# Altium footprint library Inductors_Power.PCBLIB: 45 footprints (part 3 of 3)
Each footprint in its own frame and in the unit in brackets; x right, y up, seen from the top. Pads: shape width x height; smd on the part's side, far side on the other; paste and mask are expansions set on the pad; w line width, h text height; cw(c..) or ccw(c..) is an arc to the next point about the centre after c.
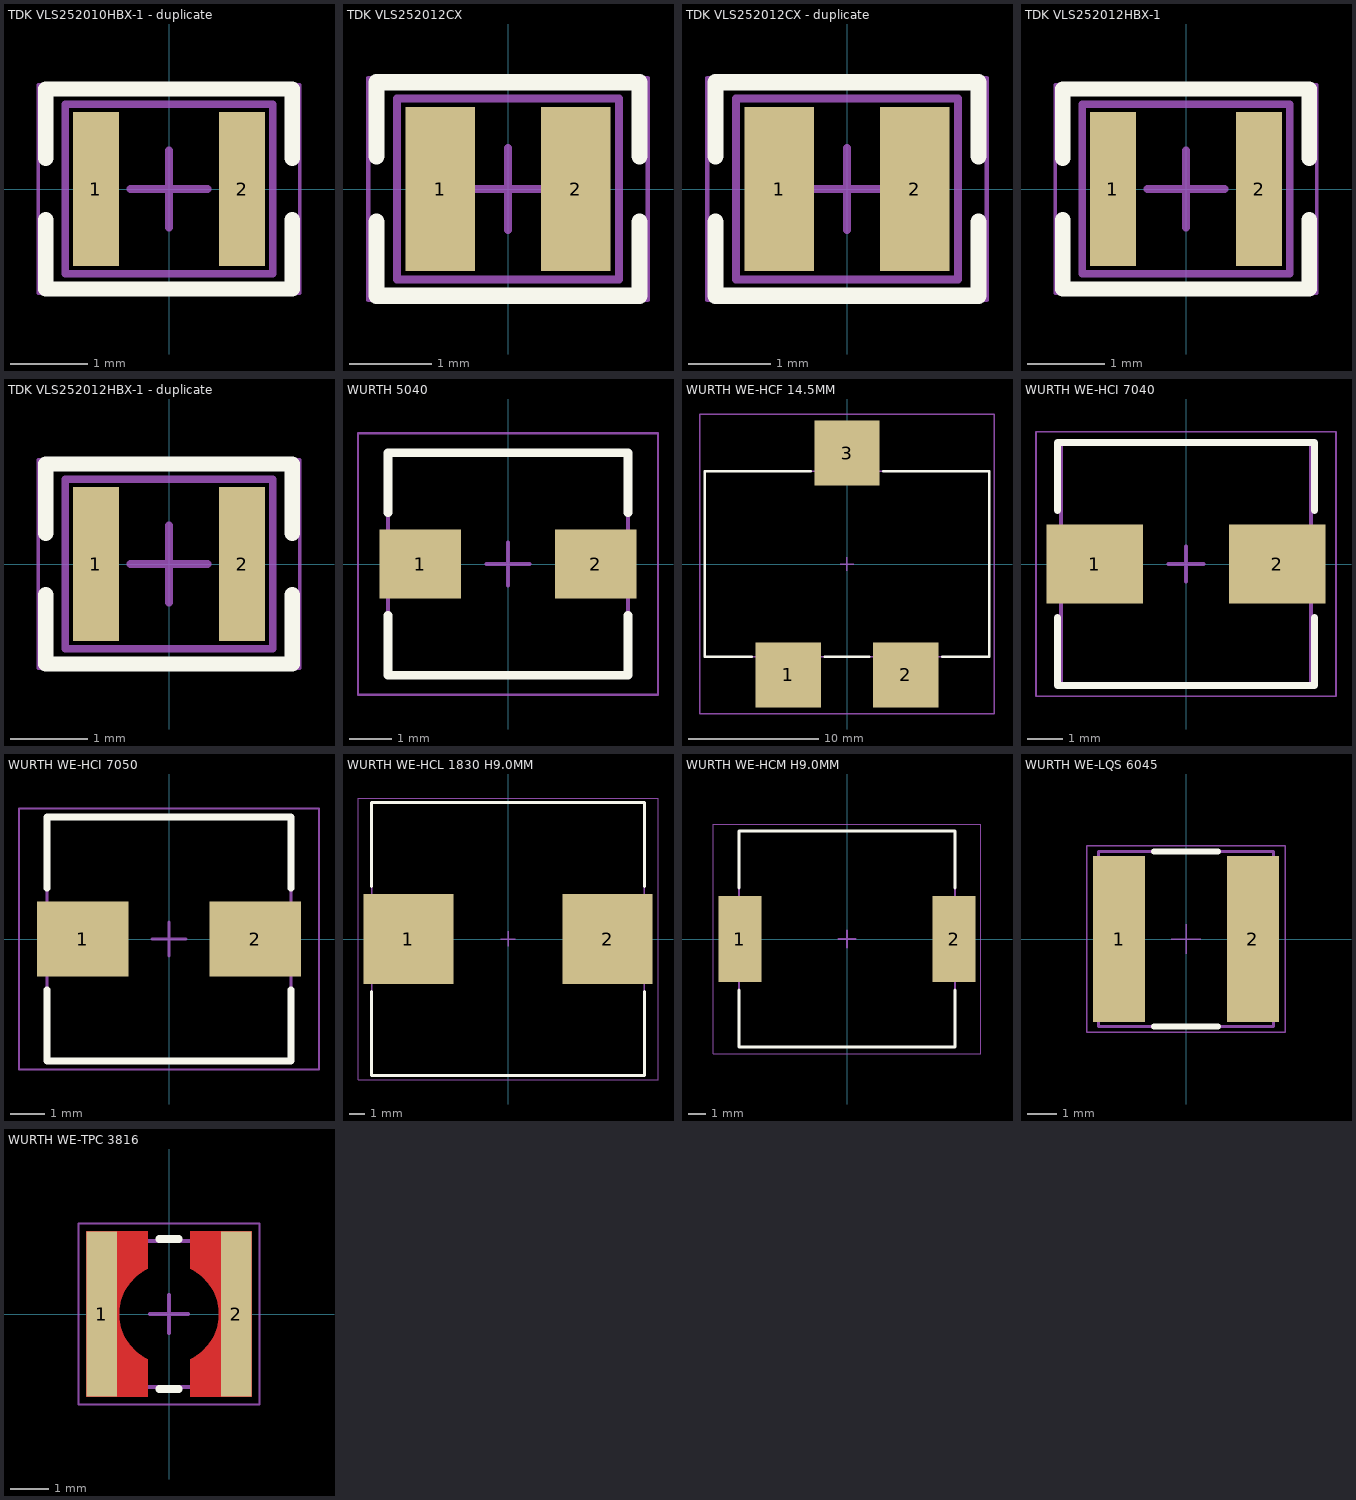
[diagram p2: the footprints below, top view; thin cyan lines are the x and y axes]

## TDK VLS252010HBX-1 - duplicate [mm] "Inductor, 2-Leads, Body 2.50x2.00mm, IPC Medium Density"
height 1
pads (2):
  rect 0.6x2 smd: 1(-0.95,0) 2(0.95,0)
Top Overlay:
  lines w0.2: -1.6,-0.4 -1.6,-1.3 1.6,-1.3 1.6,-0.4 ; -1.6,0.4 -1.6,1.3 1.6,1.3 1.6,0.4
Mechanical 13:
  lines w0.1: -1.35,-1.1 -1.35,1.1 1.35,1.1 1.35,-1.1 -1.35,-1.1
Mechanical 15 (Mech15):
  lines w0.05: -1.7,-1.35 -1.7,1.35 1.7,1.35 1.7,-1.35 -1.7,-1.35
  lines w0.1: -0.5,0 0.5,0 ; 0,-0.5 0,0.5
3D body "VLS252010HBX-1.STEP": height 1.2, standoff 0, extent -1.25,-1 1.25,1

## TDK VLS252012CX [mm] "Inductor, 2-Leads, Body 2.50x2.00mm, IPC Medium Density"
height 1.2
pads (2):
  rect 0.85x2 smd: 1(-0.825,0) 2(0.825,0)
Top Overlay:
  lines w0.2: -1.6,-0.4 -1.6,-1.3 1.6,-1.3 1.6,-0.4 ; -1.6,0.4 -1.6,1.3 1.6,1.3 1.6,0.4
Mechanical 13:
  lines w0.1: -1.35,-1.1 -1.35,1.1 1.35,1.1 1.35,-1.1 -1.35,-1.1
Mechanical 15 (Mech15):
  lines w0.05: -1.7,-1.35 -1.7,1.35 1.7,1.35 1.7,-1.35 -1.7,-1.35
  lines w0.1: -0.5,0 0.5,0 ; 0,-0.5 0,0.5
3D body "VLS252012CX.STEP": height 1.2, standoff 0, extent -1.25,-1 1.25,1

## TDK VLS252012CX - duplicate [mm] "Inductor, 2-Leads, Body 2.50x2.00mm, IPC Medium Density"
height 1.2
pads (2):
  rect 0.85x2 smd: 1(-0.825,0) 2(0.825,0)
Top Overlay:
  lines w0.2: -1.6,-0.4 -1.6,-1.3 1.6,-1.3 1.6,-0.4 ; -1.6,0.4 -1.6,1.3 1.6,1.3 1.6,0.4
Mechanical 13:
  lines w0.1: -1.35,-1.1 -1.35,1.1 1.35,1.1 1.35,-1.1 -1.35,-1.1
Mechanical 15 (Mech15):
  lines w0.05: -1.7,-1.35 -1.7,1.35 1.7,1.35 1.7,-1.35 -1.7,-1.35
  lines w0.1: -0.5,0 0.5,0 ; 0,-0.5 0,0.5
3D body "VLS252012CX.STEP": height 1.2, standoff 0, extent -1.25,-1 1.25,1

## TDK VLS252012HBX-1 [mm] "Inductor, 2-Leads, Body 2.50x2.00mm, IPC Medium Density"
height 1.2
pads (2):
  rect 0.6x2 smd: 1(-0.95,0) 2(0.95,0)
Top Overlay:
  lines w0.2: -1.6,-0.4 -1.6,-1.3 1.6,-1.3 1.6,-0.4 ; -1.6,0.4 -1.6,1.3 1.6,1.3 1.6,0.4
Mechanical 13:
  lines w0.1: -1.35,-1.1 1.35,-1.1 1.35,1.1 -1.35,1.1 -1.35,-1.1
Mechanical 15 (Mech15):
  lines w0.05: -1.7,-1.35 1.7,-1.35 1.7,1.35 -1.7,1.35 -1.7,-1.35
  lines w0.1: -0.5,0 0.5,0 ; 0,-0.5 0,0.5
3D body "VLS252012HBX-1.STEP": height 1.2, standoff 0, extent -1.25,-1 1.25,1

## TDK VLS252012HBX-1 - duplicate [mm] "Inductor, 2-Leads, Body 2.50x2.00mm, IPC Medium Density"
height 1.2
pads (2):
  rect 0.6x2 smd: 1(-0.95,0) 2(0.95,0)
Top Overlay:
  lines w0.2: -1.6,-0.4 -1.6,-1.3 1.6,-1.3 1.6,-0.4 ; -1.6,0.4 -1.6,1.3 1.6,1.3 1.6,0.4
Mechanical 13:
  lines w0.1: -1.35,-1.1 1.35,-1.1 1.35,1.1 -1.35,1.1 -1.35,-1.1
Mechanical 15 (Mech15):
  lines w0.05: -1.7,-1.35 1.7,-1.35 1.7,1.35 -1.7,1.35 -1.7,-1.35
  lines w0.1: -0.5,0 0.5,0 ; 0,-0.5 0,0.5
3D body "VLS252012HBX-1.STEP": height 1.2, standoff 0, extent -1.25,-1 1.25,1

## WURTH 5040 [mm] "Wire Wound Inductor, 2-Leads, Body 5.60x5.30mm, IPC Medium Density"
height 4.3
pads (2):
  rect 1.9x1.6 smd: 1(-2.05,0) 2(2.05,0)
Top Overlay:
  lines w0.2: -2.8,-1.2 -2.8,-2.6 2.8,-2.6 2.8,-1.2 ; -2.8,1.2 -2.8,2.6 2.8,2.6 2.8,1.2
Mechanical 13:
  lines w0.1: -2.8,-2.6 2.8,-2.6 2.8,2.6 -2.8,2.6 -2.8,-2.6
Mechanical 15 (Mech15):
  lines w0.05: -3.5,-3.05 3.5,-3.05 3.5,3.05 -3.5,3.05 -3.5,-3.05
  lines w0.1: -0.5,0 0.5,0 ; 0,-0.5 0,0.5
3D body "WE-HCI 5040.STEP": height 4, standoff 0, extent -2.79,-2.65 2.79,2.65

## WURTH WE-HCF 14.5MM [mm] "SMD High Current Inductor, body 21.8x14.2mm"
height 14.5
pads (3):
  rect 5x5 smd: 1(-4.5,-8.5) 2(4.5,-8.5) 3(0,8.5)
Top Overlay:
  lines w0.2: -7.3,-7.1 -10.9,-7.1 -10.9,7.1 -2.8,7.1 ; -1.7,-7.1 1.7,-7.1 ; 2.8,7.1 10.9,7.1 10.9,-7.1 7.3,-7.1
Mechanical 13:
  lines w0.1: -10.9,-7.1 10.9,-7.1 10.9,7.1 -10.9,7.1 -10.9,-7.1
Mechanical 15 (Mech15):
  lines w0.1: -0.5,0 0.5,0 ; 0,-0.5 0,0.5 ; -11.3,-11.5 11.3,-11.5 11.3,11.5 -11.3,11.5 -11.3,-11.5
3D body "WURTH WE-HCF 14.5mm.step": height 14, standoff 0, extent -10.75,-10.6 10.75,10.4

## WURTH WE-HCI 7040 [mm]
height 4
pads (2):
  rect 2.7x2.2 smd: 1(-2.55,0) 2(2.55,0)
Top Overlay:
  lines w0.2: -3.6,-1.5 -3.6,-3.4 3.6,-3.4 3.6,-1.5 ; -3.6,1.5 -3.6,3.4 3.6,3.4 3.6,1.5
Mechanical 13:
  lines w0.1: -3.5,-3.4 -3.5,3.4 3.5,3.4 3.5,-3.4 -3.5,-3.4
Mechanical 15 (Mech15):
  lines w0.05: -4.2,-3.7 -4.2,3.7 4.2,3.7 4.2,-3.7 -4.2,-3.7
  lines w0.1: -0.5,0 0.5,0 ; 0,-0.5 0,0.5
3D body "WE-HCI 7040.STEP": height 4, standoff 0, extent -3.49,-3.45 3.49,3.45

## WURTH WE-HCI 7050 [mm]
height 5
pads (2):
  rect 2.7x2.2 smd: 1(-2.55,0) 2(2.55,0)
Top Overlay:
  lines w0.2: -3.6,-1.5 -3.6,-3.6 3.6,-3.6 3.6,-1.5 ; -3.6,1.5 -3.6,3.6 3.6,3.6 3.6,1.5
Mechanical 13:
  lines w0.1: -3.6,-3.6 -3.6,3.6 3.6,3.6 3.6,-3.6 -3.6,-3.6
Mechanical 15 (Mech15):
  lines w0.05: -4.425,-3.85 -4.425,3.85 4.425,3.85 4.425,-3.85 -4.425,-3.85
  lines w0.1: -0.5,0 0.5,0 ; 0,-0.5 0,0.5
3D body "WE-HCI 7050.STEP": height 5, standoff 0, extent -3.49,-3.45 3.49,3.45

## WURTH WE-HCL 1830 H9.0MM [mm]
height 8.9
pads (2):
  rect 6x6 smd: 1(-6.65,0) 2(6.65,0)
Top Overlay:
  lines w0.2: -9.1,-3.5 -9.1,-9.1 9.1,-9.1 9.1,-3.5 ; -9.1,3.5 -9.1,9.1 9.1,9.1 9.1,3.5
Mechanical 13:
  lines w0.1: -9.1,-9.1 9.1,-9.1 9.1,9.1 -9.1,9.1 -9.1,-9.1
Mechanical 15 (Mech15):
  lines w0.05: -10,-9.4 10,-9.4 10,9.4 -10,9.4 -10,-9.4
  lines w0.1: -0.5,0 0.5,0 ; 0,-0.5 0,0.5
3D body "WURTH WE-HCI-1890-8.9mmH.step": height 8.9, standoff 0, extent -9.15,-9.1 9.15,9.1

## WURTH WE-HCM H9.0MM [mm]
height 9
pads (2):
  rect 2.5x5 smd: 1(-6.25,0) 2(6.25,0)
Top Overlay:
  lines w0.2: -6.3,-3 -6.3,-6.3 6.3,-6.3 6.3,-3 ; -6.3,3 -6.3,6.3 6.3,6.3 6.3,3
Mechanical 13:
  lines w0.1: -6.3,-6.3 6.3,-6.3 6.3,6.3 -6.3,6.3 -6.3,-6.3
Mechanical 15 (Mech15):
  lines w0.05: -7.8,-6.7 7.8,-6.7 7.8,6.7 -7.8,6.7 -7.8,-6.7
  lines w0.1: -0.5,0 0.5,0 ; 0,-0.5 0,0.5
3D body "WURTH WE-HCM-1390-9.0mmH.step": height 9, standoff 0, extent -7,-6.5 7,6.5

## WURTH WE-LQS 6045 [mm] "SMD Power Inductor, 2-Leads, body 6x6mm"
height 4.5
pads (2):
  rect 1.8x5.7 smd: 1(-2.3,0) 2(2.3,0)
Top Overlay:
  lines w0.2: -1.1,-3 1.1,-3 ; -1.1,3 1.1,3
Mechanical 13:
  lines w0.1: -3,-3 3,-3 3,3 -3,3 -3,-3
Mechanical 15 (Mech15):
  lines w0.05: -0.5,0 0.5,0 ; 0,-0.5 0,0.5 ; -3.4,-3.2 3.4,-3.2 3.4,3.2 -3.4,3.2 -3.4,-3.2
3D body "WURTH - WE-LQS H4.5mm.step": height 4.5, standoff 0, extent -3,-3 3,3

## WURTH WE-TPC 3816 [mm] "Power Inductor, SMD, 2-Leads, body 3.8x3.8mm"
height 1.65
pads (2):
  rect 0.8x4.3 smd paste-403.566 mask-403.566: 1(-1.75,0) 2(1.75,0)
Top Layer:
  region: 0.55,2.15 2.15,2.15 2.15,-2.15 0.55,-2.15 0.55,-1.178 0.658,-1.121 0.857,-0.977 1.026,-0.799 1.157,-0.592 1.248,-0.364 1.294,-0.123 1.294,0.122 1.248,0.363 1.158,0.592 1.026,0.798 0.858,0.977 0.659,1.121 0.55,1.178
  region: -0.55,-2.15 -2.15,-2.15 -2.15,2.15 -0.55,2.15 -0.55,1.178 -0.658,1.121 -0.857,0.977 -1.026,0.799 -1.157,0.592 -1.248,0.364 -1.294,0.123 -1.294,-0.122 -1.248,-0.363 -1.158,-0.592 -1.026,-0.798 -0.858,-0.977 -0.659,-1.121 -0.55,-1.178
Top Overlay:
  lines w0.2: -0.25,-1.95 0.25,-1.95 ; -0.25,1.95 0.25,1.95
Mechanical 13:
  lines w0.1: -1.9,-1.9 -1.9,1.9 1.9,1.9 1.9,-1.9 -1.9,-1.9
Mechanical 15 (Mech15):
  lines w0.05: -0.5,0 0.5,0 ; 0,-0.5 0,0.5 ; -2.35,-2.35 -2.35,2.35 2.35,2.35 2.35,-2.35 -2.35,-2.35
  lines w0.1: -0.5,0 0.5,0 ; 0,-0.5 0,0.5
3D body "WURTH - WE-TPC H1.65mm.step": height 1.65, standoff 0, extent -1.958,-1.87 1.842,1.93